# Altium schematic symbol library Filter1.SchLib: 1 symbol
Pins are listed as number, name and electrical type; pins without a type are passive.

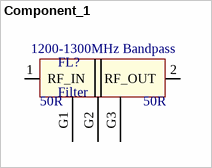
[diagram p0: symbol Component_1]

## Component_1
designator FL?, comment Filter  (net tie, no BOM)
footprint PCBComponent_1
pins: 1 RF_IN, 2 RF_OUT, G1, G2, G3
text: 1200-1300MHz Bandpass; 50R